# Altium schematic symbol library разъёмы.SchLib: 135 symbols (part 2 of 2)

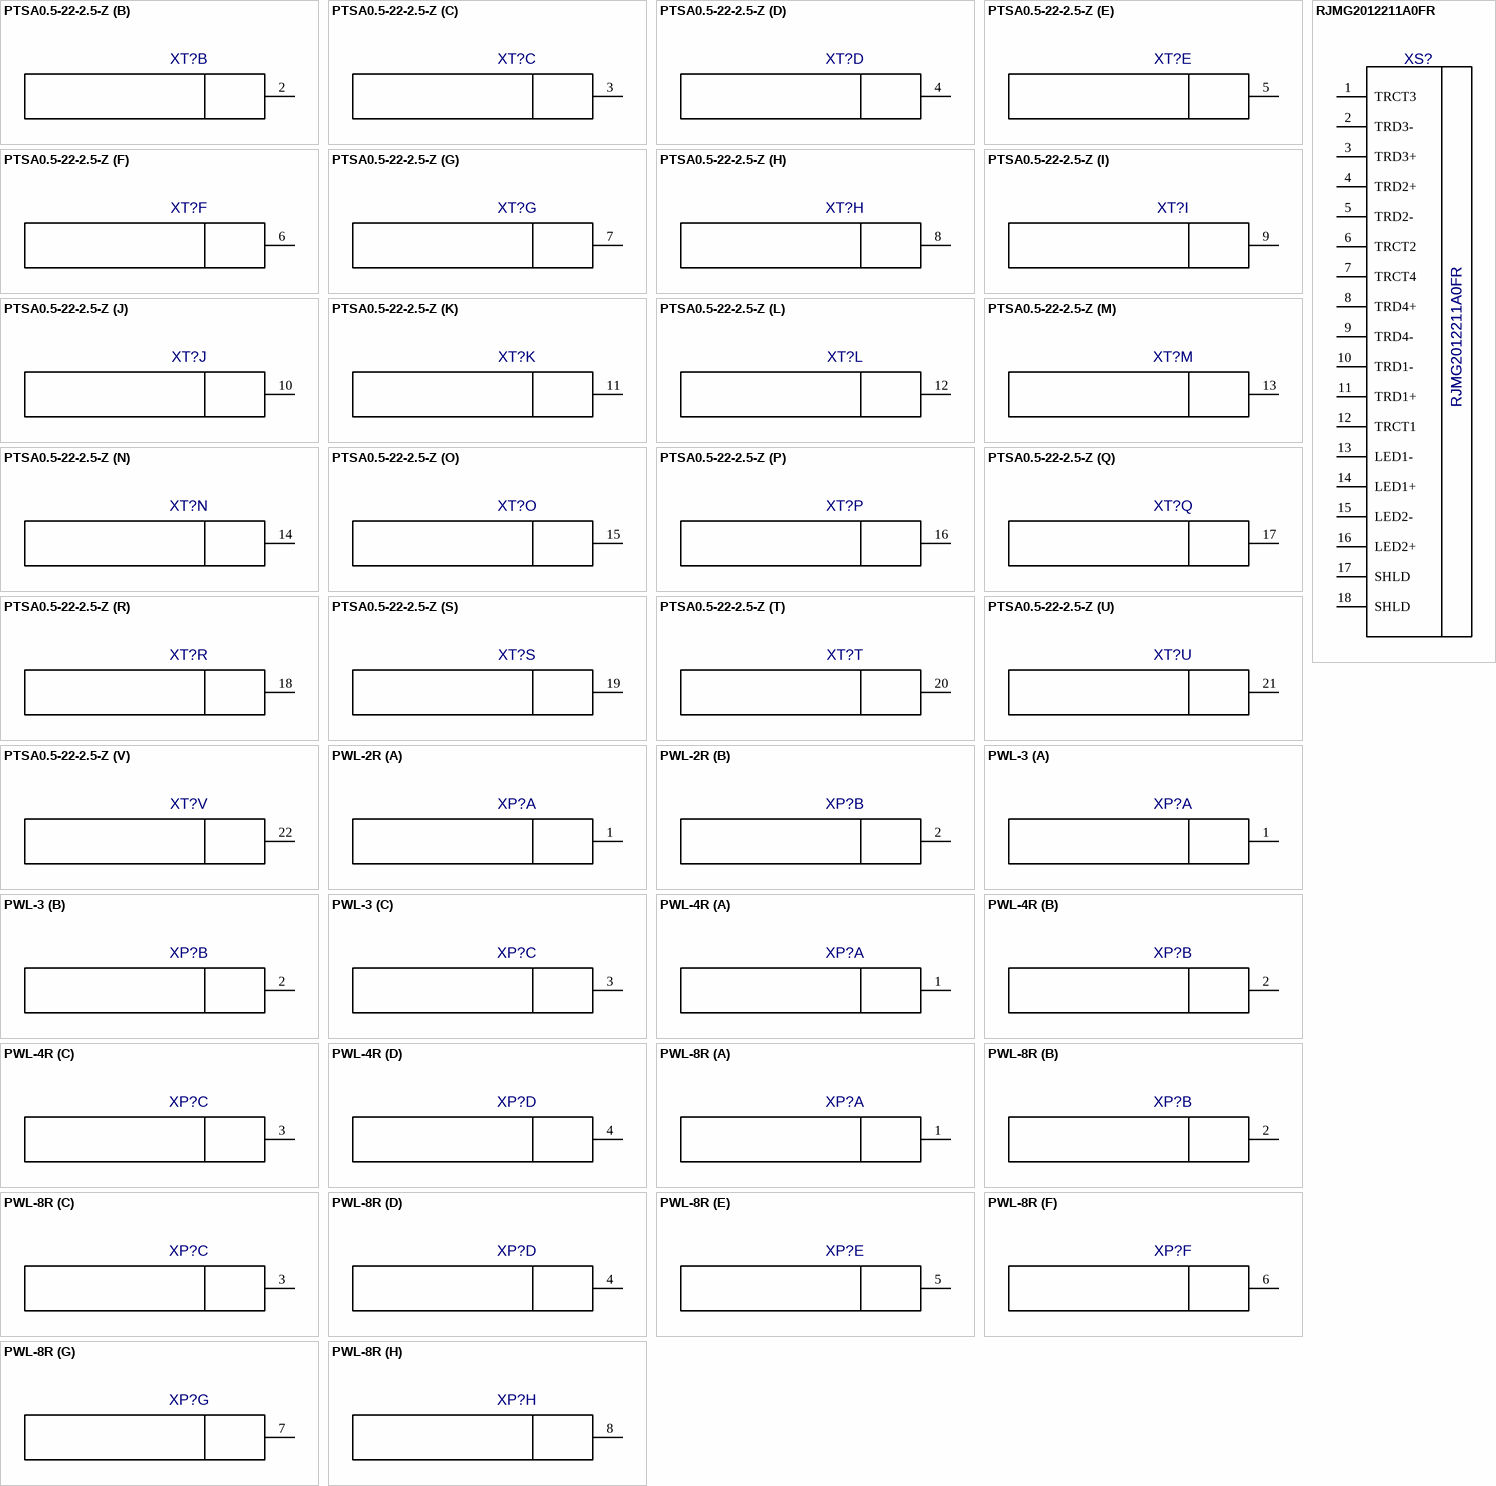
[diagram p23: symbols PTSA0.5-22-2.5-Z to RJMG2012211A0FR]

## PTSA0.5-22-2.5-Z
designator XT?  (value not drawn)
Value: *
footprint PTSA0.5-22-2.5-Z
part A pins: 1
part B pins: 2
part C pins: 3
part D pins: 4
part E pins: 5
part F pins: 6
part G pins: 7
part H pins: 8
part I pins: 9
part J pins: 10
part K pins: 11
part L pins: 12
part M pins: 13
part N pins: 14
part O pins: 15
part P pins: 16
part Q pins: 17
part R pins: 18
part S pins: 19
part T pins: 20
part U pins: 21
part V pins: 22

## PWL-2R
designator XP?  (value not drawn)
Value: *
footprint PWL-2R
part A pins: 1
part B pins: 2

## PWL-3
designator XP?  (value not drawn)
Value: *
footprint PWL-3
part A pins: 1
part B pins: 2
part C pins: 3

## PWL-4R
designator XP?  (value not drawn)
Value: *
footprint PWL-4R
part A pins: 1
part B pins: 2
part C pins: 3
part D pins: 4

## PWL-8R
designator XP?  (value not drawn)
Value: *
footprint PWL-8R
part A pins: 1
part B pins: 2
part C pins: 3
part D pins: 4
part E pins: 5
part F pins: 6
part G pins: 7
part H pins: 8

## RJMG2012211A0FR
designator XS?
Value: RJMG2012211A0FR
footprint RJMG2012211A0FR
pins: 1 TRCT3, 2 TRD3-, 3 TRD3+, 4 TRD2+, 5 TRD2-, 6 TRCT2, 7 TRCT4, 8 TRD4+, 9 TRD4-, 10 TRD1-, 11 TRD1+, 12 TRCT1, 13 LED1-, 14 LED1+, 15 LED2-, 16 LED2+, 17 SHLD, 18 SHLD, 19 hidden, 20 hidden

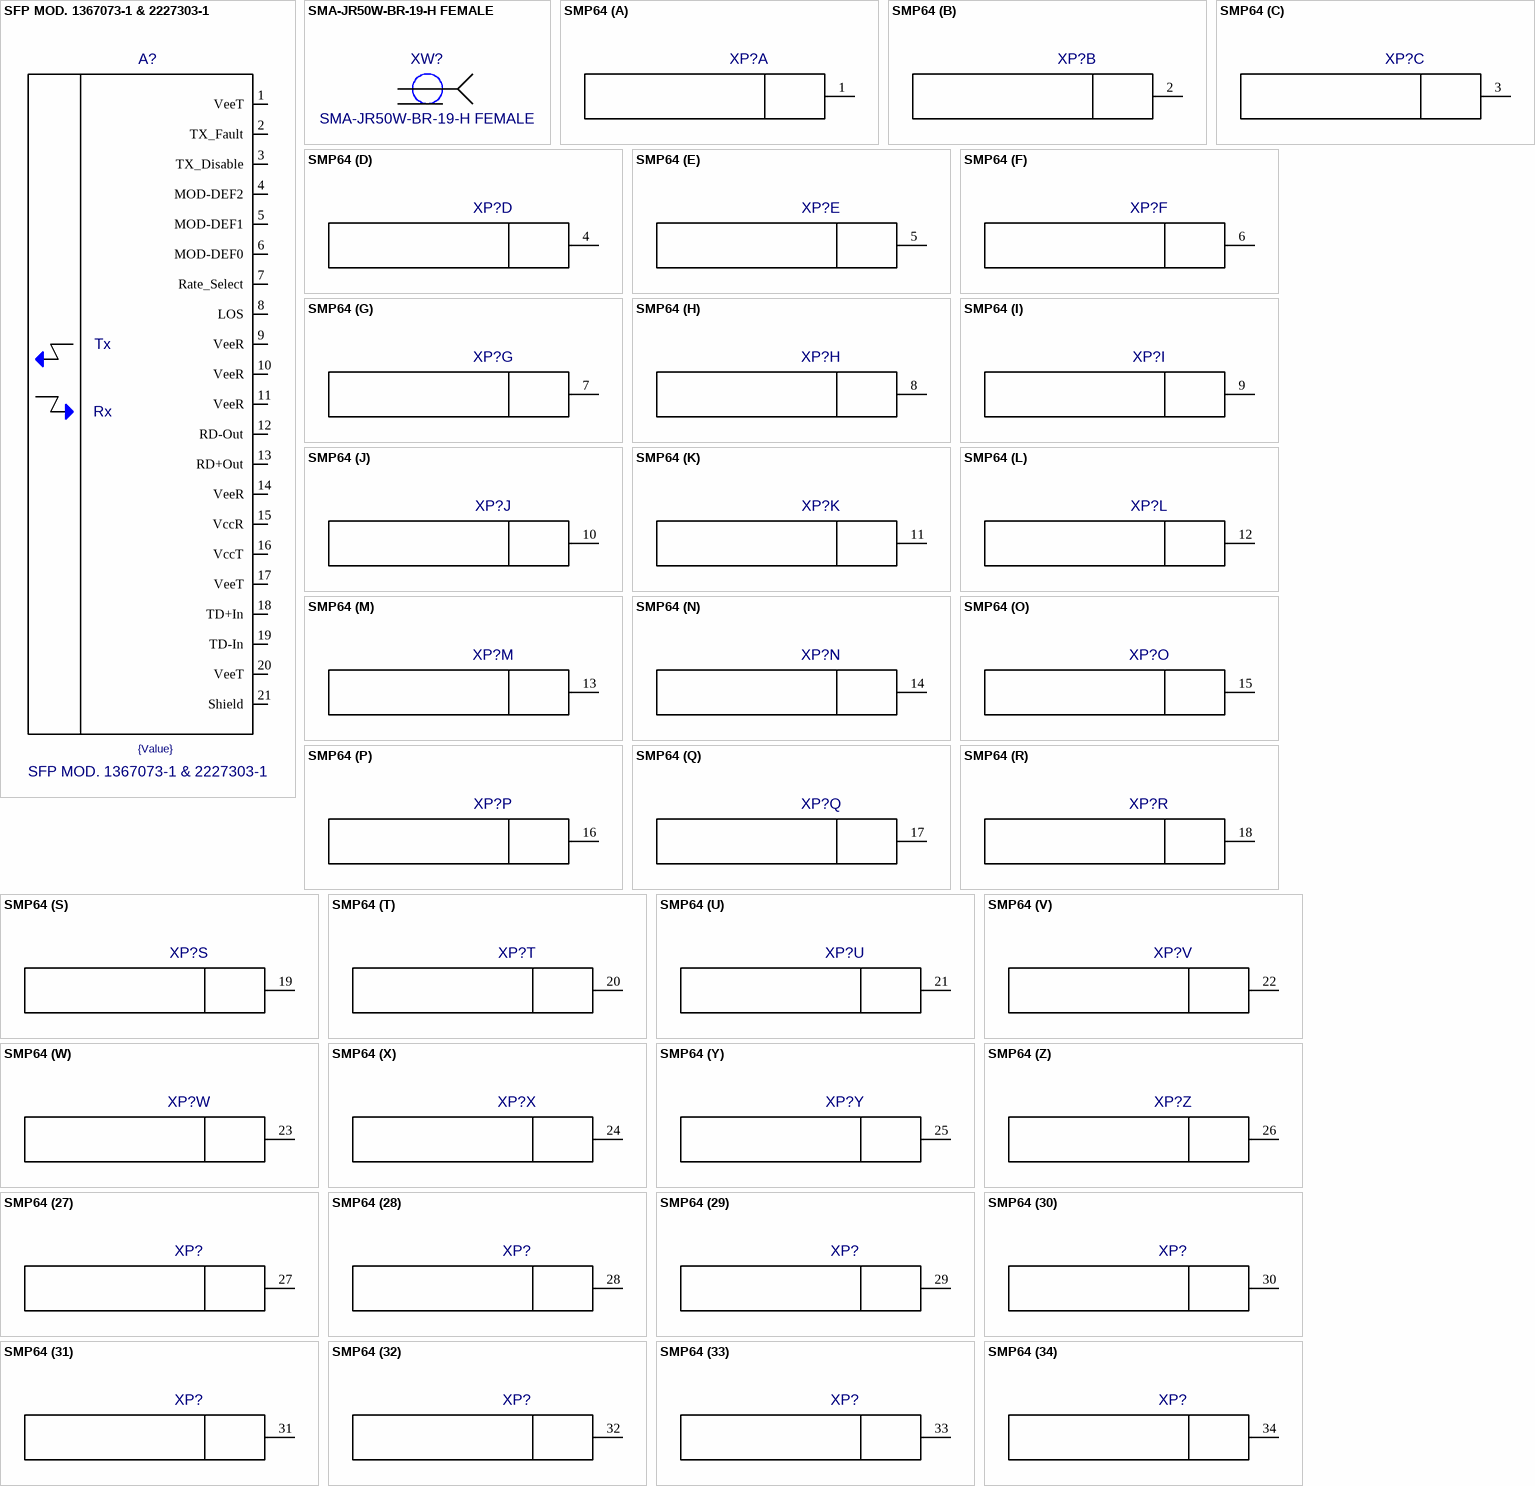
[diagram p24: symbols SFP MOD. 1367073-1 & 2227303-1 to SMP64]

## SFP MOD. 1367073-1 & 2227303-1
designator A?  value {Value}
footprint SFP MODULE
pins: 1 VeeT, 2 TX_Fault, 3 TX_Disable, 4 MOD-DEF2, 5 MOD-DEF1, 6 MOD-DEF0, 7 Rate_Select, 8 LOS, 9 VeeR, 10 VeeR, 11 VeeR, 12 RD-Out, 13 RD+Out, 14 VeeR, 15 VccR, 16 VccT, 17 VeeT, 18 TD+In, 19 TD-In, 20 VeeT, 21 Shield, 22 Shield, 23 Shield, 24 Shield, 25 Shield, 26 Shield, 27 Shield, 28 Shield, 29 Shield, 30 Shield, 31 Shield, 32 Shield, 33 Shield, 34 Shield, 35 Shield, 36 Shield, 37 Shield, 38 Shield, 39 Shield, 40 Shield
text: Tx; Rx

## SMA-JR50W-BR-19-H FEMALE
designator XW?
Value: *
footprint SMA-JR50W-BR-19-H
pins: 1, 2, 3, 4, 5

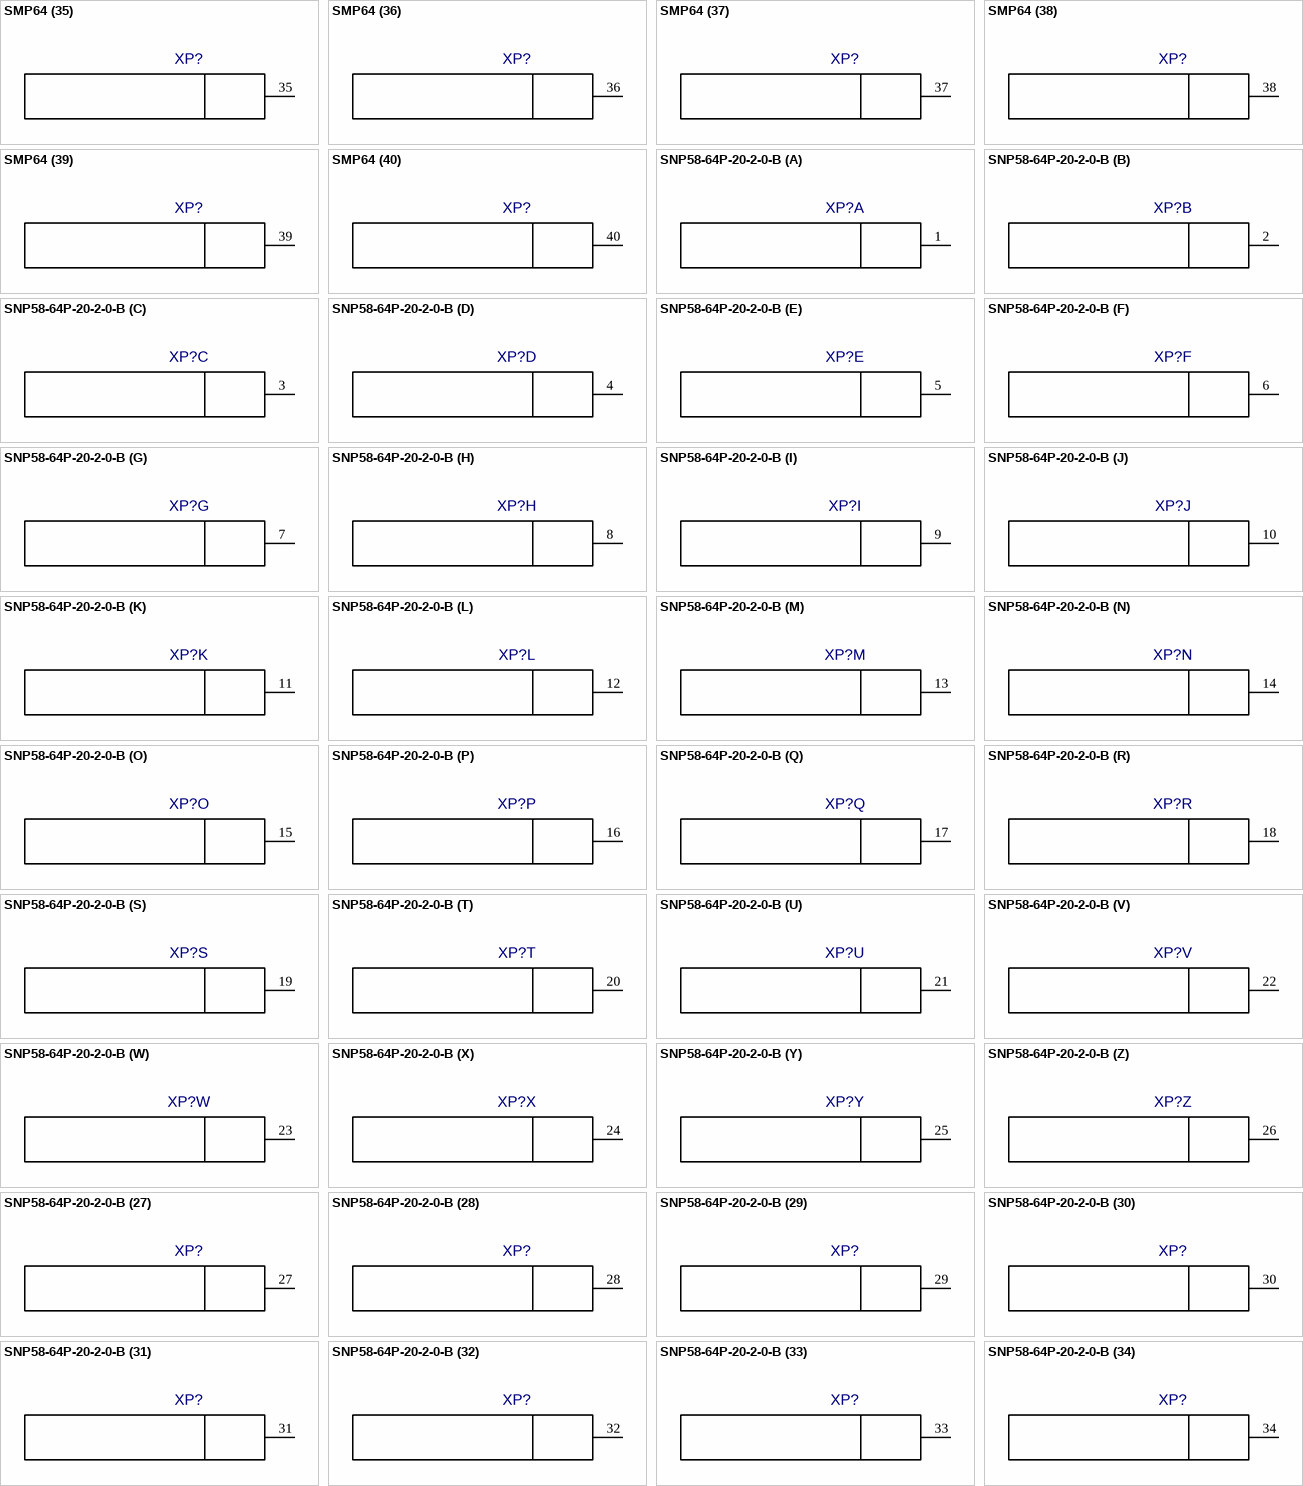
[diagram p25: symbols SMP64 to SNP58-64P-20-2-0-B]

## SMP64
designator XP?  (value not drawn)
Value: *
footprint SMP64
pins on every part: 65 hidden, 66 hidden
part A pins: 1
part B pins: 2
part C pins: 3
part D pins: 4
part E pins: 5
part F pins: 6
part G pins: 7
part H pins: 8
part I pins: 9
part J pins: 10
part K pins: 11
part L pins: 12
part M pins: 13
part N pins: 14
part O pins: 15
part P pins: 16
part Q pins: 17
part R pins: 18
part S pins: 19
part T pins: 20
part U pins: 21
part V pins: 22
part W pins: 23
part X pins: 24
part Y pins: 25
part Z pins: 26
part 27 pins: 27
part 28 pins: 28
part 29 pins: 29
part 30 pins: 30
part 31 pins: 31
part 32 pins: 32
part 33 pins: 33
part 34 pins: 34
part 35 pins: 35
part 36 pins: 36
part 37 pins: 37
part 38 pins: 38
part 39 pins: 39
part 40 pins: 40
part 41 pins: 41
part 42 pins: 42
part 43 pins: 43
part 44 pins: 44
part 45 pins: 45
part 46 pins: 46
part 47 pins: 47
part 48 pins: 48
part 49 pins: 49
part 50 pins: 50
part 51 pins: 51
part 52 pins: 52
part 53 pins: 53
part 54 pins: 54
part 55 pins: 55
part 56 pins: 56
part 57 pins: 57
part 58 pins: 58
part 59 pins: 59
part 60 pins: 60
part 61 pins: 61
part 62 pins: 62
part 63 pins: 63
part 64 pins: 64

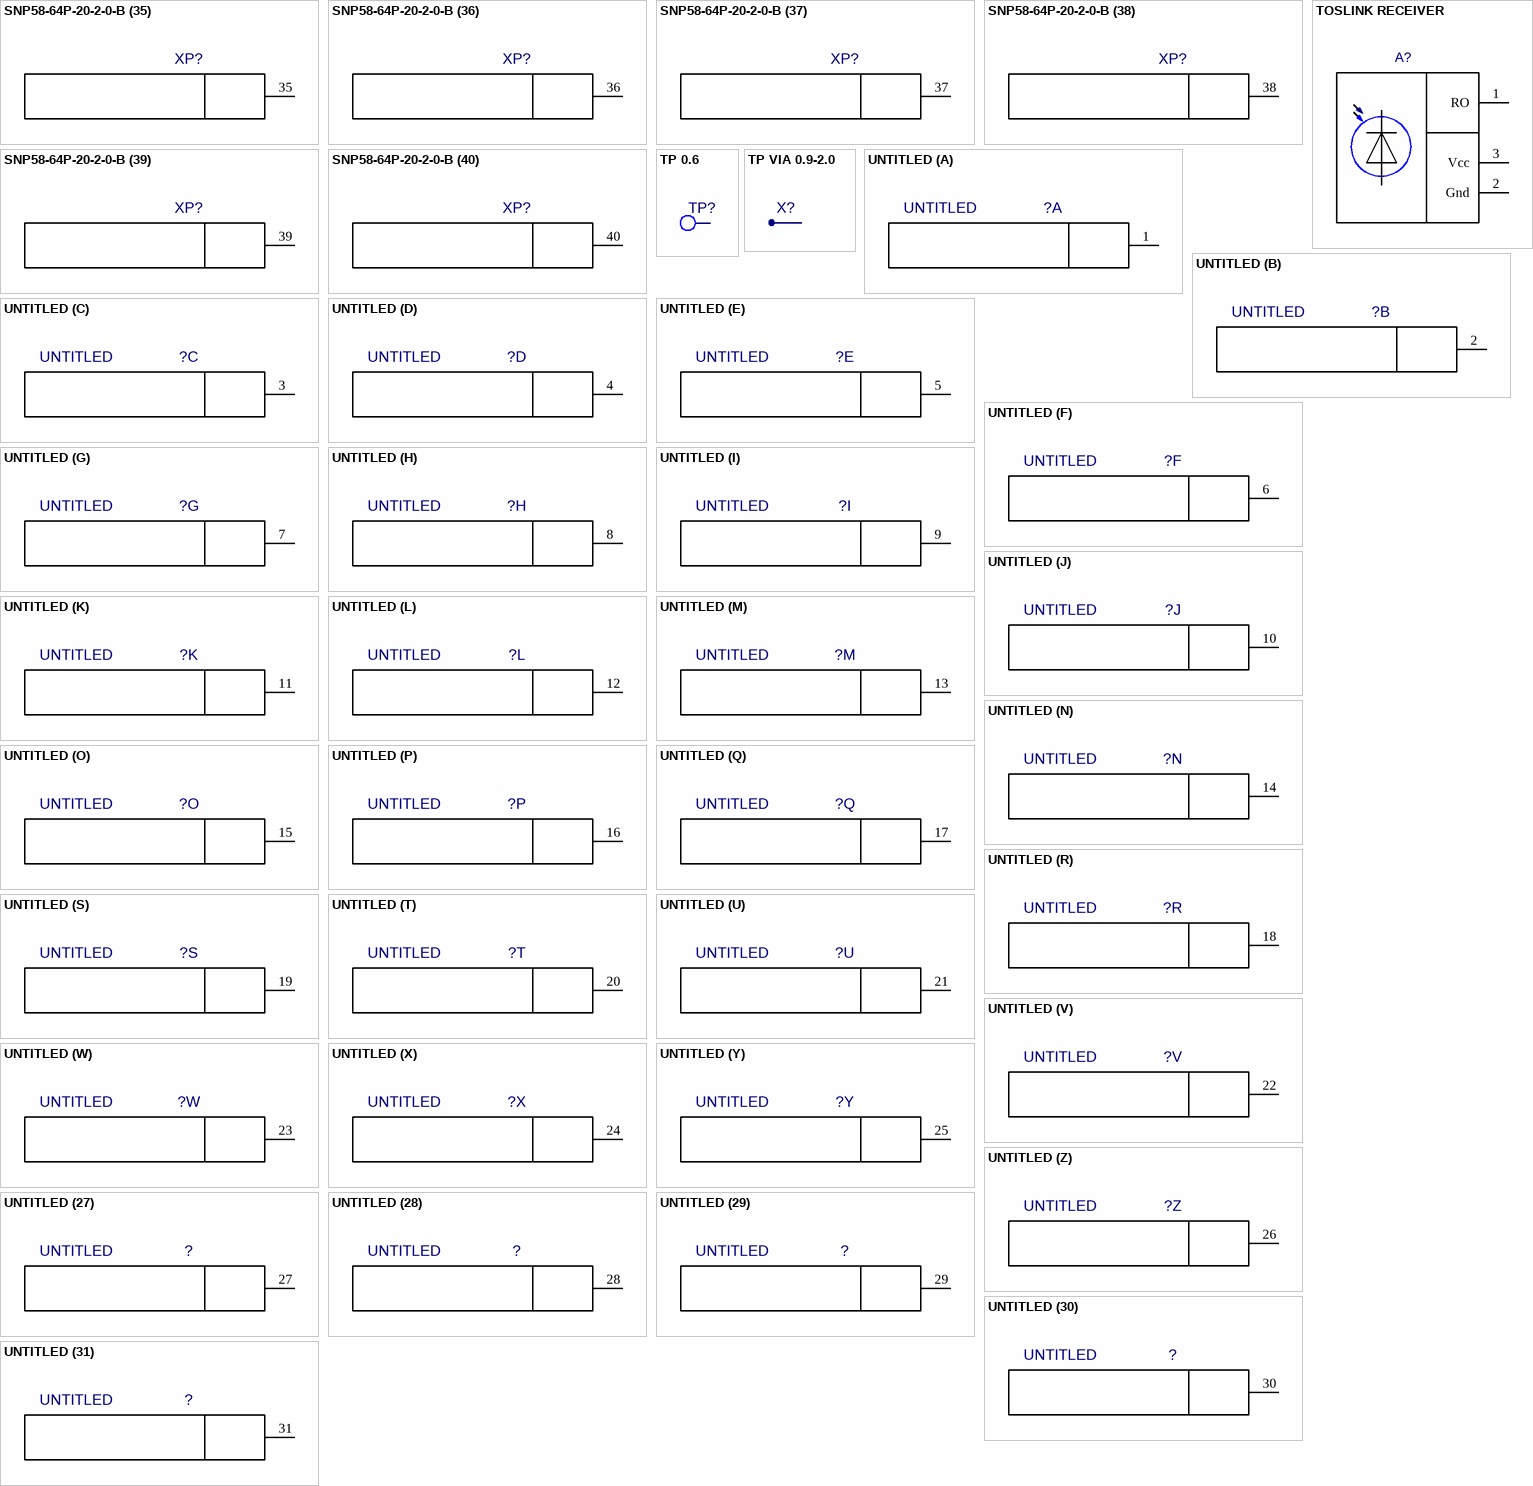
[diagram p26: symbols SNP58-64P-20-2-0-B to UNTITLED]

## SNP58-64P-20-2-0-B
designator XP?  (value not drawn)
Value: *
footprint SNP58-64P-20-2-0-B
pins on every part: 65 hidden, 66 hidden
part A pins: 1
part B pins: 2
part C pins: 3
part D pins: 4
part E pins: 5
part F pins: 6
part G pins: 7
part H pins: 8
part I pins: 9
part J pins: 10
part K pins: 11
part L pins: 12
part M pins: 13
part N pins: 14
part O pins: 15
part P pins: 16
part Q pins: 17
part R pins: 18
part S pins: 19
part T pins: 20
part U pins: 21
part V pins: 22
part W pins: 23
part X pins: 24
part Y pins: 25
part Z pins: 26
part 27 pins: 27
part 28 pins: 28
part 29 pins: 29
part 30 pins: 30
part 31 pins: 31
part 32 pins: 32
part 33 pins: 33
part 34 pins: 34
part 35 pins: 35
part 36 pins: 36
part 37 pins: 37
part 38 pins: 38
part 39 pins: 39
part 40 pins: 40
part 41 pins: 41
part 42 pins: 42
part 43 pins: 43
part 44 pins: 44
part 45 pins: 45
part 46 pins: 46
part 47 pins: 47
part 48 pins: 48
part 49 pins: 49
part 50 pins: 50
part 51 pins: 51
part 52 pins: 52
part 53 pins: 53
part 54 pins: 54
part 55 pins: 55
part 56 pins: 56
part 57 pins: 57
part 58 pins: 58
part 59 pins: 59
part 60 pins: 60
part 61 pins: 61
part 62 pins: 62
part 63 pins: 63
part 64 pins: 64

## TOSLINK RECEIVER
designator A?  (value not drawn)
Value: *
pins: 1 RO, 2 Gnd, 3 Vcc

## TP 0.6
designator TP?, comment D=0.6  (value not drawn)  (no BOM)
Тестпоинт / Площадка D=0.6 мм без отверстия; Value: D=0.6
footprint TP 0.6 (Тестпоинт / Площадка D=0.6 мм без отверстия)
pins: 1

## TP VIA 0.9-2.0
designator X?, comment 0.9-1.2  (value not drawn)  (no BOM)
Тестпоинт / Отверстие для пайки провода; Value: 0.9-1.2
footprint TP VIA 0.9-2.0 - duplicate (Тестпоинт / Отверстие для пайки провода)
pins: 1

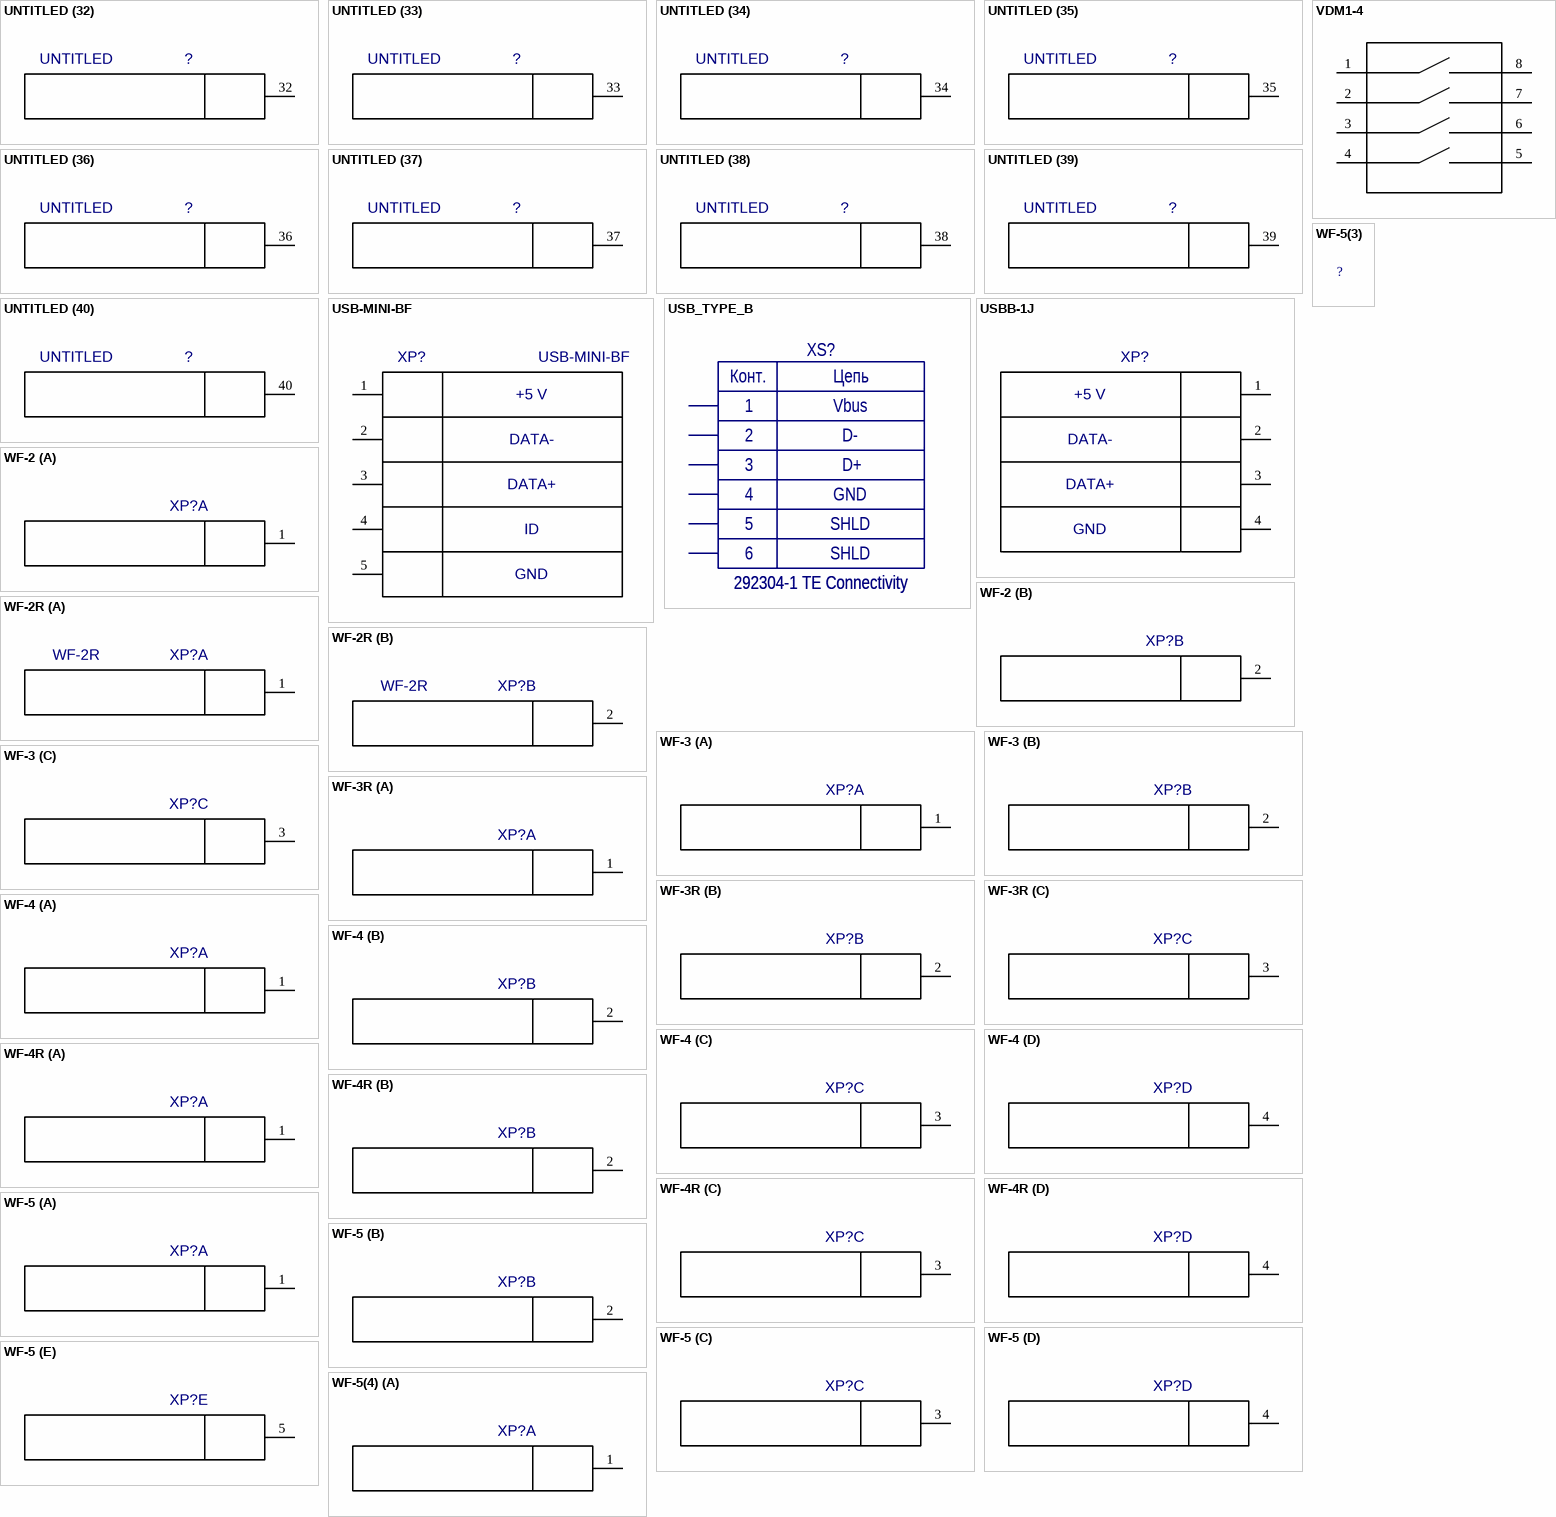
[diagram p27: symbols UNTITLED to WF-5(4)]

## UNTITLED
designator ?
Value: *
part A pins: 1
part B pins: 2
part C pins: 3
part D pins: 4
part E pins: 5
part F pins: 6
part G pins: 7
part H pins: 8
part I pins: 9
part J pins: 10
part K pins: 11
part L pins: 12
part M pins: 13
part N pins: 14
part O pins: 15
part P pins: 16
part Q pins: 17
part R pins: 18
part S pins: 19
part T pins: 20
part U pins: 21
part V pins: 22
part W pins: 23
part X pins: 24
part Y pins: 25
part Z pins: 26
part 27 pins: 27
part 28 pins: 28
part 29 pins: 29
part 30 pins: 30
part 31 pins: 31
part 32 pins: 32
part 33 pins: 33
part 34 pins: 34
part 35 pins: 35
part 36 pins: 36
part 37 pins: 37
part 38 pins: 38
part 39 pins: 39
part 40 pins: 40
part 41 pins: 41
part 42 pins: 42
part 43 pins: 43
part 44 pins: 44
part 45 pins: 45
part 46 pins: 46
part 47 pins: 47
part 48 pins: 48
part 49 pins: 49
part 50 pins: 50
part 51 pins: 51
part 52 pins: 52
part 53 pins: 53
part 54 pins: 54
part 55 pins: 55
part 56 pins: 56
part 57 pins: 57
part 58 pins: 58
part 59 pins: 59
part 60 pins: 60
part 61 pins: 61
part 62 pins: 62

## USB-MINI-BF
designator XP?
Value: *
footprint USB-MINI-BF
pins: 1, 2, 3, 4, 5, 6 hidden, 7 hidden, 8 hidden, 9 hidden
text: +5 V; DATA-; DATA+; ID; GND

## USB_TYPE_B
designator XS?, comment 292304-1 TE Connectivity
USB_TYPE_B; Cell: *; Manufacturer: *; ManufacturerPartNmber: 292304-1 TE Connectivity; Tolerance: *; Current: *; Voltage: *; Power: *; Value: 292304-1 TE Connectivity
footprint USB_B
pins: 1, 2, 3, 4, 5, 6
text: Конт.; Цепь; Vbus; D-; D+; GND; SHLD

## USBB-1J
designator XP?  (value not drawn)
Value: *
footprint USBB-1J
pins: 1, 2, 3, 4, 5 hidden, 6 hidden
text: +5 V; DATA-; DATA+; GND

## VDM1-4
designator U?  (value not drawn)
Value: *
pins: 1, 2, 3, 4, 5, 6, 7, 8

## WF-2
designator XP?  (value not drawn)
Value: *
footprint WF-2
part A pins: 1
part B pins: 2

## WF-2R
designator XP?
Value: *
footprint WF-2R
part A pins: 1
part B pins: 2

## WF-3
designator XP?  (value not drawn)
Value: *
footprint WF-3
part A pins: 1
part B pins: 2
part C pins: 3

## WF-3R
designator XP?  (value not drawn)
Value: *
footprint WF-3R
part A pins: 1
part B pins: 2
part C pins: 3

## WF-4
designator XP?  (value not drawn)
Value: *
footprint WF-4
part A pins: 1
part B pins: 2
part C pins: 3
part D pins: 4

## WF-4R
designator XP?  (value not drawn)
Value: *
footprint WF-4R
part A pins: 1
part B pins: 2
part C pins: 3
part D pins: 4

## WF-5
designator XP?  (value not drawn)
Value: *
footprint WF-5
part A pins: 1
part B pins: 2
part C pins: 3
part D pins: 4
part E pins: 5

## WF-5(3)
designator ?  (value not drawn)
Value: *
footprint WF-5(3)
pins: 1 hidden, 2 hidden, 3 hidden

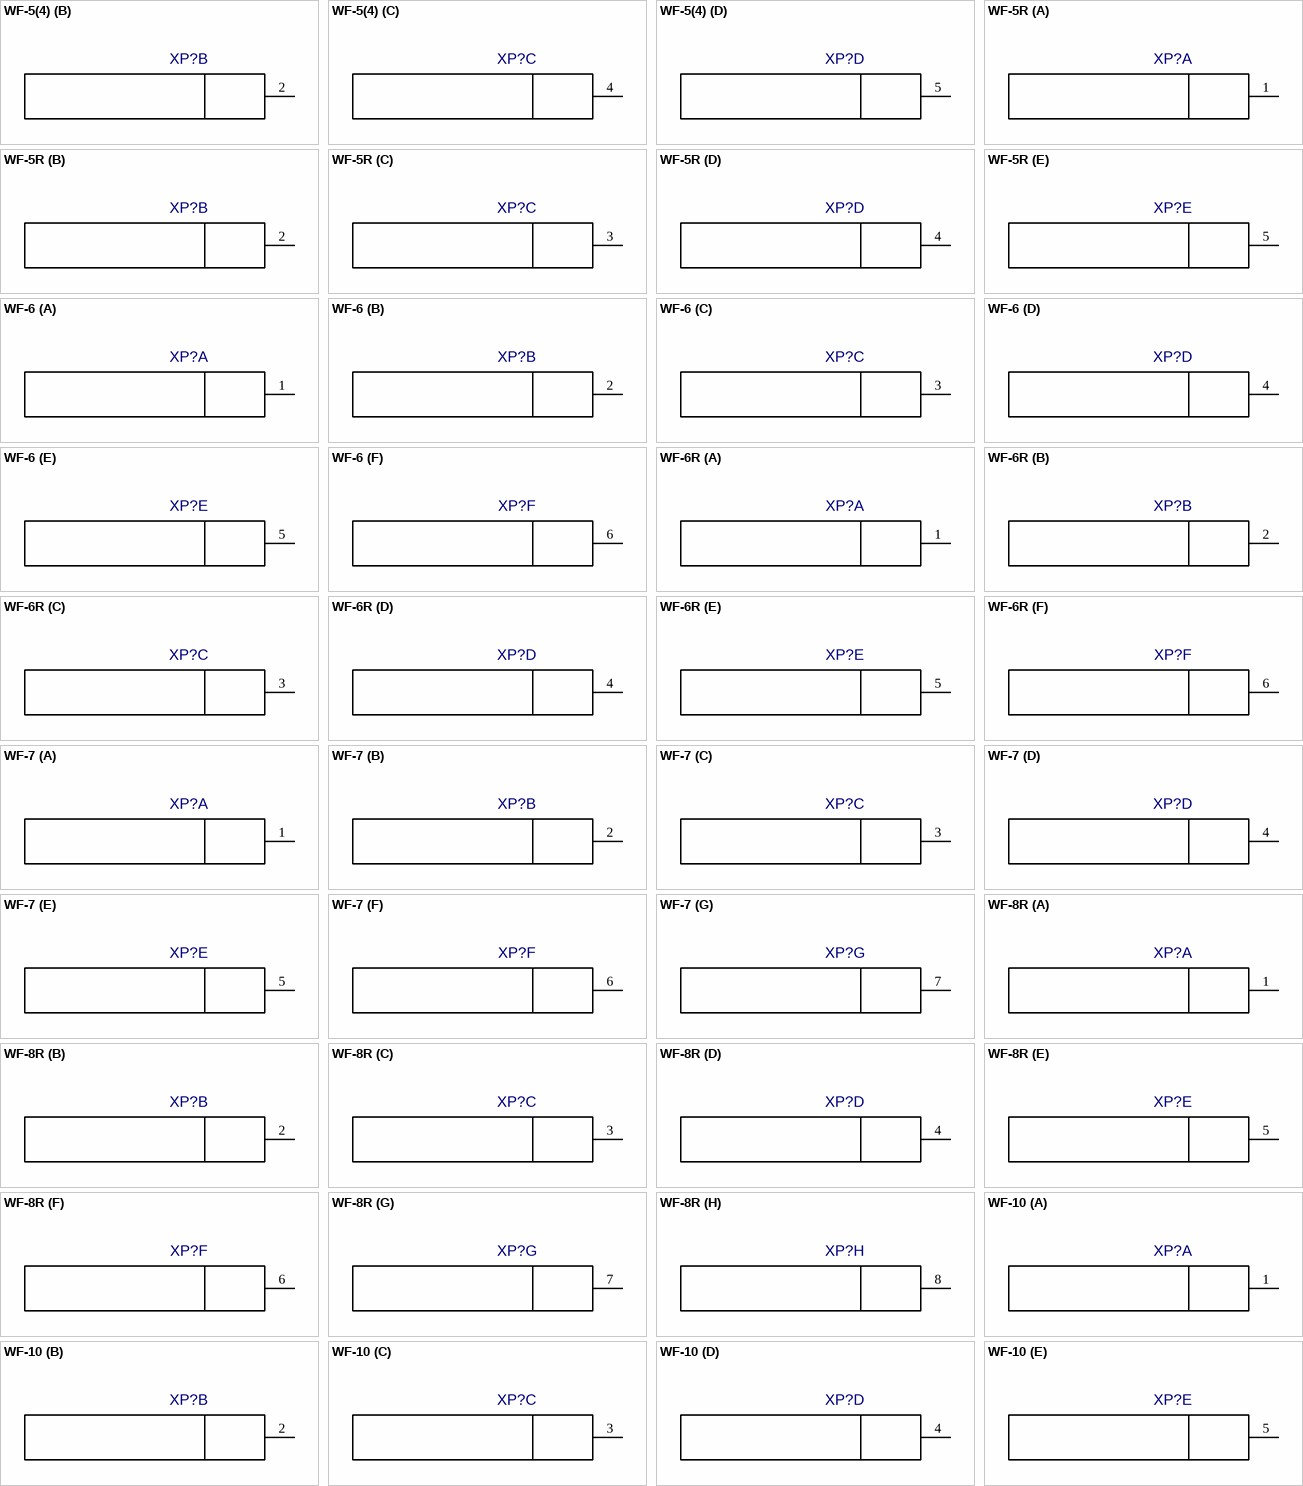
[diagram p28: symbols WF-5(4) to WF-10]

## WF-5(4)
designator XP?  (value not drawn)
Value: *
footprint WF-5(4)
part A pins: 1
part B pins: 2
part C pins: 4
part D pins: 5

## WF-5R
designator XP?  (value not drawn)
Value: *
footprint WF-5R
part A pins: 1
part B pins: 2
part C pins: 3
part D pins: 4
part E pins: 5

## WF-6
designator XP?  (value not drawn)
Value: *
footprint WF-6
part A pins: 1
part B pins: 2
part C pins: 3
part D pins: 4
part E pins: 5
part F pins: 6

## WF-6R
designator XP?  (value not drawn)
Value: *
footprint WF-6R
part A pins: 1
part B pins: 2
part C pins: 3
part D pins: 4
part E pins: 5
part F pins: 6

## WF-7
designator XP?  (value not drawn)
Value: *
footprint WF-7
part A pins: 1
part B pins: 2
part C pins: 3
part D pins: 4
part E pins: 5
part F pins: 6
part G pins: 7

## WF-8R
designator XP?  (value not drawn)
Value: *
footprint WF-8R
part A pins: 1
part B pins: 2
part C pins: 3
part D pins: 4
part E pins: 5
part F pins: 6
part G pins: 7
part H pins: 8

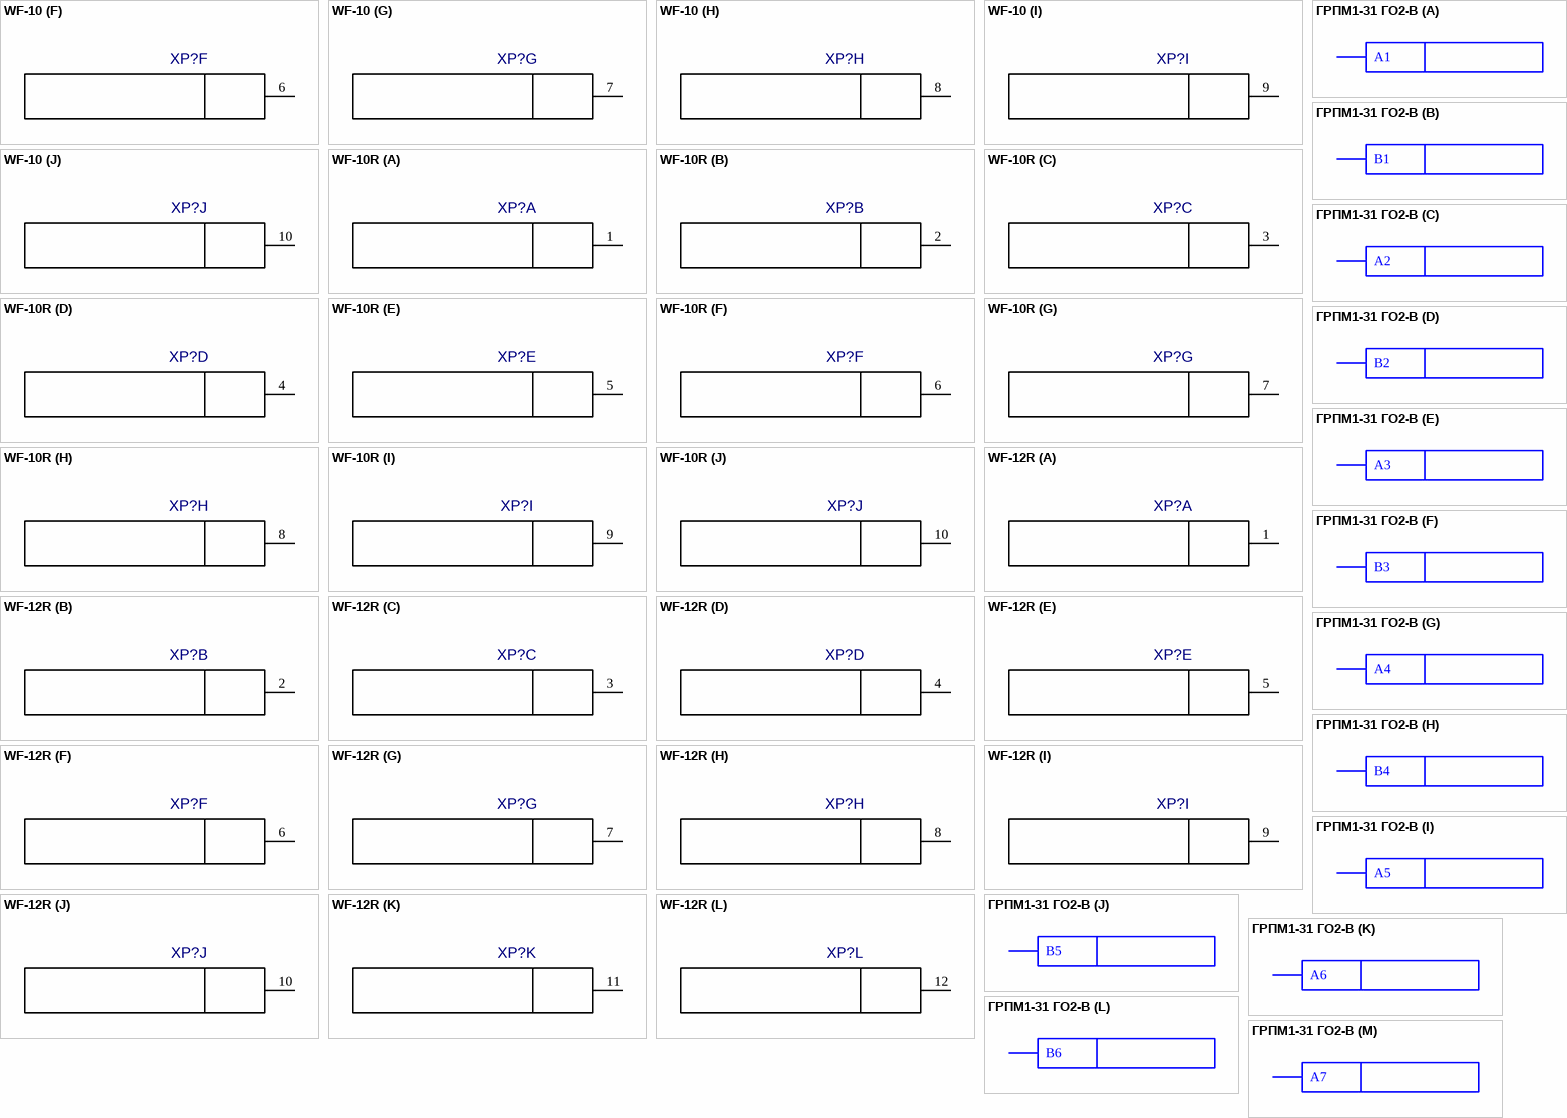
[diagram p29: symbols WF-10 to ГРПМ1-31 ГО2-В]

## WF-10
designator XP?  (value not drawn)
Value: *
footprint WF-10
part A pins: 1
part B pins: 2
part C pins: 3
part D pins: 4
part E pins: 5
part F pins: 6
part G pins: 7
part H pins: 8
part I pins: 9
part J pins: 10

## WF-10R
designator XP?  (value not drawn)
Value: *
footprint WF-10R
part A pins: 1
part B pins: 2
part C pins: 3
part D pins: 4
part E pins: 5
part F pins: 6
part G pins: 7
part H pins: 8
part I pins: 9
part J pins: 10

## WF-12R
designator XP?  (value not drawn)
Value: *
footprint WF-12R
part A pins: 1
part B pins: 2
part C pins: 3
part D pins: 4
part E pins: 5
part F pins: 6
part G pins: 7
part H pins: 8
part I pins: 9
part J pins: 10
part K pins: 11
part L pins: 12

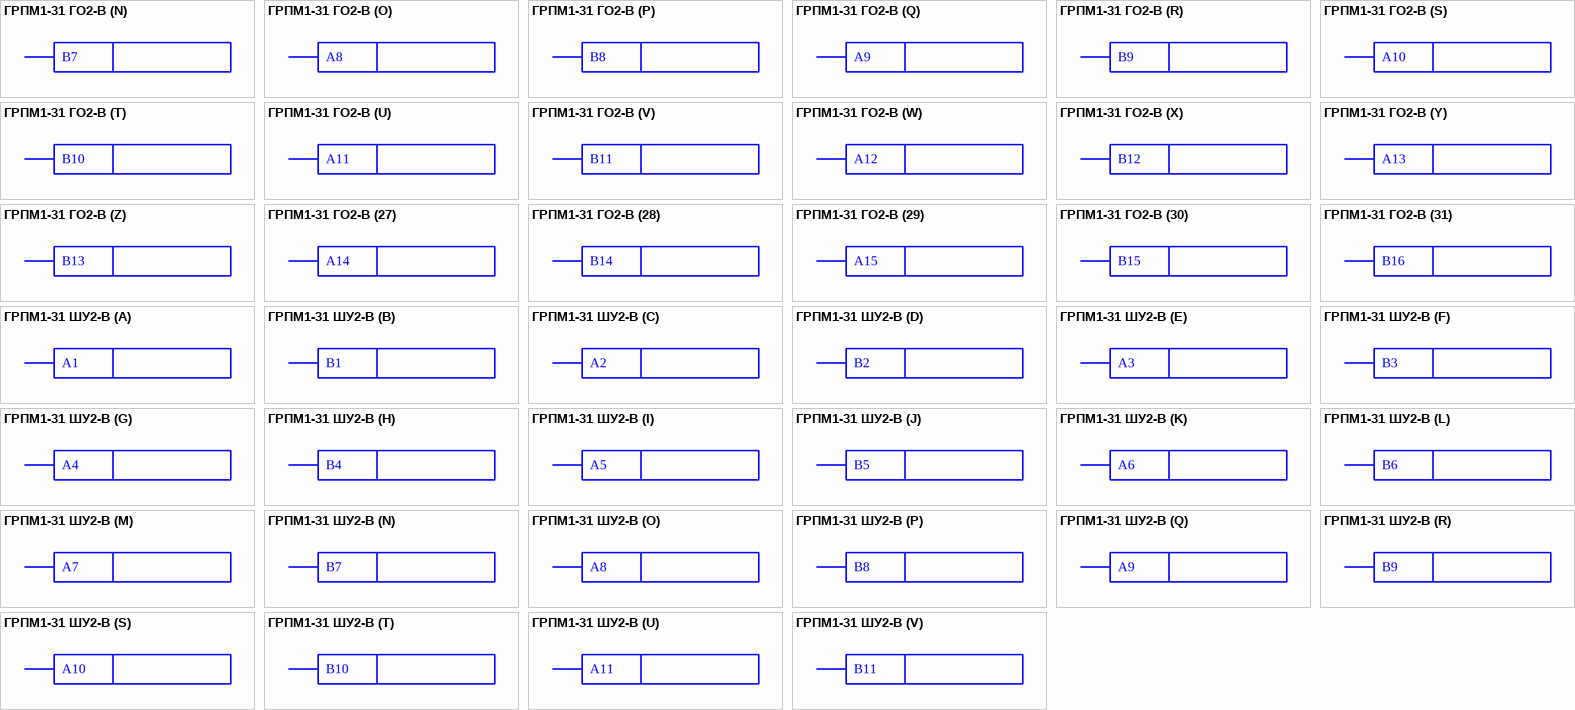
[diagram p30: symbols ГРПМ1-31 ГО2-В to ГРПМ1-31 ШУ2-В]

## ГРПМ1-31 ГО2-В
designator XP?  (value not drawn)  (no BOM)
ГРПМ1-31 ГО2-В НКЦС.434.410.501ТУ; Published: 08.04.2020; Type: Краевые контакты печатным способом; Value: ГРПМ1-31 ГО2-В
footprint GRPM1-31_SHU2-V
part A pins: A1
part B pins: B1
part C pins: A2
part D pins: B2
part E pins: A3
part F pins: B3
part G pins: A4
part H pins: B4
part I pins: A5
part J pins: B5
part K pins: A6
part L pins: B6
part M pins: A7
part N pins: B7
part O pins: A8
part P pins: B8
part Q pins: A9
part R pins: B9
part S pins: A10
part T pins: B10
part U pins: A11
part V pins: B11
part W pins: A12
part X pins: B12
part Y pins: A13
part Z pins: B13
part 27 pins: A14
part 28 pins: B14
part 29 pins: A15
part 30 pins: B15
part 31 pins: B16

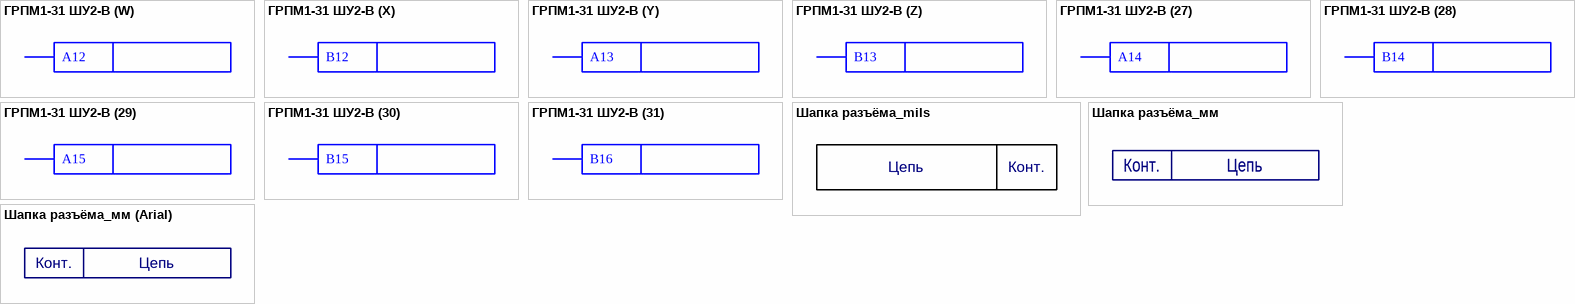
[diagram p31: symbols ГРПМ1-31 ШУ2-В to Шапка разъёма_мм (Arial)]

## ГРПМ1-31 ШУ2-В
designator XP?  (value not drawn)  (no BOM)
Вилка ГРПМ1-31 ШУ2-В НКЦС.434.410.501ТУ; Published: 08.04.2020; Type: Краевые контакты печатным способом; Value: ГРПМ1-31 ШУ2-В
footprint GRPM1-31_SHU2-V
part A pins: A1
part B pins: B1
part C pins: A2
part D pins: B2
part E pins: A3
part F pins: B3
part G pins: A4
part H pins: B4
part I pins: A5
part J pins: B5
part K pins: A6
part L pins: B6
part M pins: A7
part N pins: B7
part O pins: A8
part P pins: B8
part Q pins: A9
part R pins: B9
part S pins: A10
part T pins: B10
part U pins: A11
part V pins: B11
part W pins: A12
part X pins: B12
part Y pins: A13
part Z pins: B13
part 27 pins: A14
part 28 pins: B14
part 29 pins: A15
part 30 pins: B15
part 31 pins: B16

## Шапка разъёма_mils
designator ?, comment Шапка разъёма  (value not drawn)  (graphical)
Value: *
text: Цепь; Конт.

## Шапка разъёма_мм
designator ?, comment Шапка разъёма  (value not drawn)  (graphical)
Value: *
text: Конт.; Цепь

## Шапка разъёма_мм (Arial)
designator ?, comment Шапка разъёма  (value not drawn)  (graphical)
Value: *
text: Конт.; Цепь